# EAGLE library part EA2-5T (library uoo)
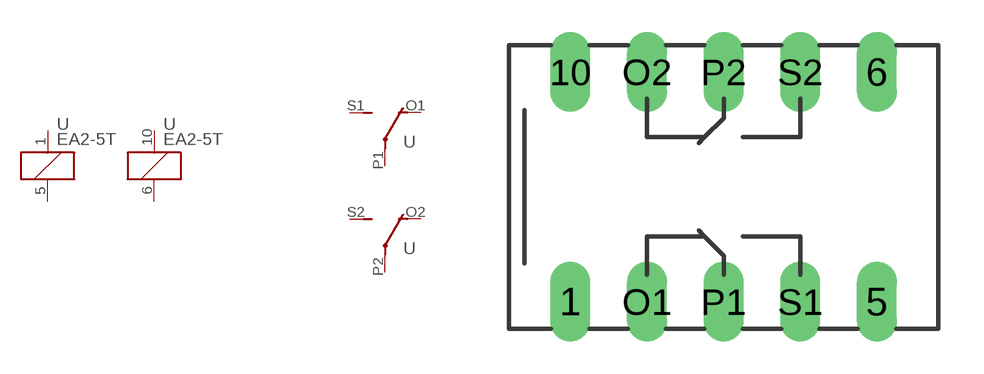
[diagram p1: symbol with the pads of G6H2-100; footprint G6H2-100]

Designator prefix -; gates LOFF=K LON=K S1=U S2=U

## EA2-5T  [G6H2-100]
1  LOFF:1  pas
5  LOFF:2  pas
6  LON:2  pas
10  LON:1  pas
O1  S1:O  pas
O2  S2:O  pas
P1  S1:P  pas
P2  S2:P  pas
S1  S1:S  pas
S2  S2:S  pas

## Footprint G6H2-100 (pad centres in mm)
RELAY 2 x switch 0.5 A/125 V AC, 1 A/30 V DC, Omron
drill 0.813 long: 1 -5.08,-3.81; 5 5.08,-3.81; 6 5.08,3.81; 10 -5.08,3.81; O1 -2.54,-3.81; O2 -2.54,3.81; P1 0,-3.81; P2 0,3.81; S1 2.54,-3.81; S2 2.54,3.81